# Altium schematic symbol library L298N.SchLib: 1 symbol
Pins are listed as number, name and electrical type; pins without a type are passive.

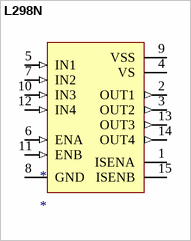
[diagram p0: symbol L298N]

## L298N
designator *
footprint L298N-DIP
pins: 1 ISENA, 2 OUT1 (out), 3 OUT2 (out), 4 VS, 5 IN1 (in), 6 ENA (in), 7 IN2 (in), 8 GND, 9 VSS, 10 IN3 (in), 11 ENB (in), 12 IN4 (in), 13 OUT3 (out), 14 OUT4 (out), 15 ISENB